# EAGLE library part GAL16V8 (library F030NG)
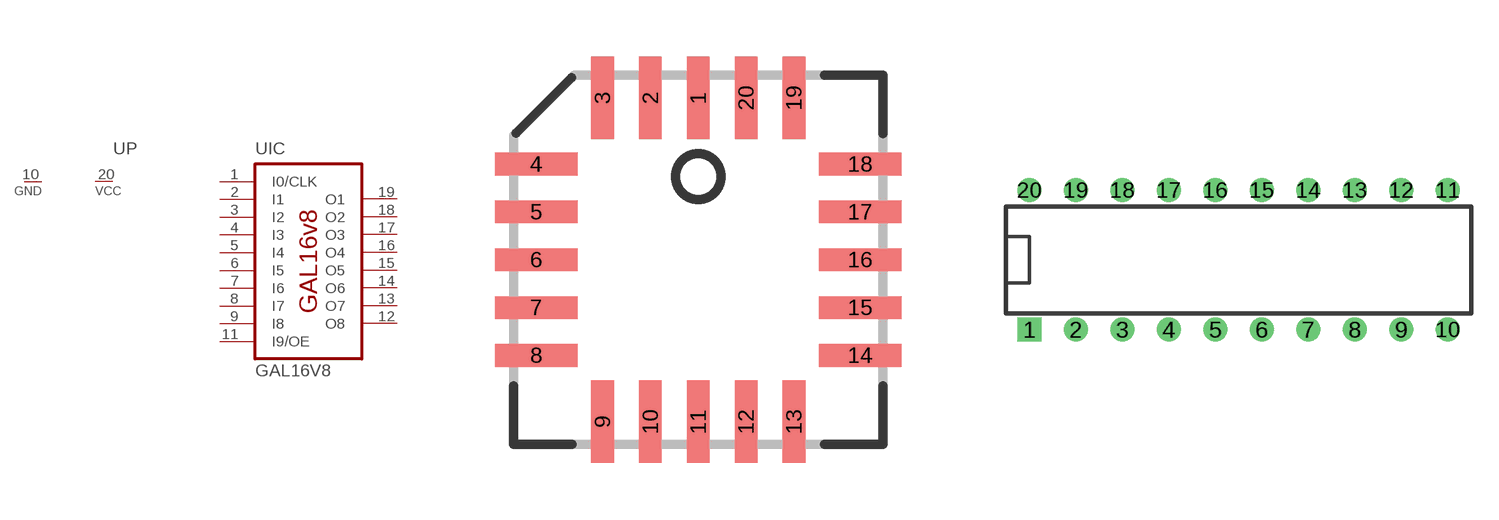
[diagram p35: symbol with the pads of PLCC20; footprints PLCC20, DIL20]

Designator prefix U; gates IC=GAL16V8 P=1VCC_1GND

## GAL16V8-PLCC  [PLCC20]
1  IC:I0/CLK  in
2  IC:I1  in
3  IC:I2  in
4  IC:I3  in
5  IC:I4  in
6  IC:I5  in
7  IC:I6  in
8  IC:I7  in
9  IC:I8  in
10  P:GND  pwr
11  IC:I9/OE  in
12  IC:O8
13  IC:O7
14  IC:O6
15  IC:O5
16  IC:O4
17  IC:O3
18  IC:O2
19  IC:O1
20  P:VCC  pwr

## GAL16V8-DIL  [DIL20]
Pads as for PLCC20

## GAL16V8-PLCCS  [S20]
Pads as for PLCC20

## Footprint PLCC20 (pad centres in mm)
Plastic Leaded Chip Carrier
smd 0.6 x 2.2: 1 0,4.3; 2 -1.27,4.3; 3 -2.54,4.3; 9 -2.54,-4.3; 10 -1.27,-4.3; 11 0,-4.3; 12 1.27,-4.3; 13 2.54,-4.3; 19 2.54,4.3; 20 1.27,4.3
smd 2.2 x 0.6: 4 -4.3,2.54; 5 -4.3,1.27; 6 -4.3,0; 7 -4.3,-1.27; 8 -4.3,-2.54; 14 4.3,-2.54; 15 4.3,-1.27; 16 4.3,0; 17 4.3,1.27; 18 4.3,2.54

## Footprint DIL20 (pad centres in mm)
Dual In Line Package
drill 0.8 square: 1 -11.43,-3.81
drill 0.8: 2 -8.89,-3.81; 3 -6.35,-3.81; 4 -3.81,-3.81; 5 -1.27,-3.81; 6 1.27,-3.81; 7 3.81,-3.81; 8 6.35,-3.81; 9 8.89,-3.81; 10 11.43,-3.81; 11 11.43,3.81; 12 8.89,3.81; 13 6.35,3.81; 14 3.81,3.81; 15 1.27,3.81; 16 -1.27,3.81; 17 -3.81,3.81; 18 -6.35,3.81; 19 -8.89,3.81; 20 -11.43,3.81

## Footprint S20 (pad centres in mm)
PLCC SOCKET
drill 0.813: 1 0,5.08; 2 0,2.54; 3 -2.54,5.08; 4 -5.08,2.54; 5 -2.54,2.54; 6 -5.08,0; 7 -2.54,0; 8 -5.08,-2.54; 9 -2.54,-5.08; 10 -2.54,-2.54; 11 0,-5.08; 12 0,-2.54; 13 2.54,-5.08; 14 5.08,-2.54; 15 2.54,-2.54; 16 5.08,0; 17 2.54,0; 18 5.08,2.54; 19 2.54,5.08; 20 2.54,2.54